# Altium schematic symbol library Crystal.SchLib: 2 symbols
Pins are listed as number, name and electrical type; pins without a type are passive.

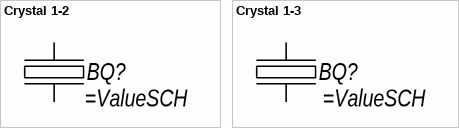
[diagram p0: symbols Crystal 1-2 to Crystal 1-3]

## Crystal 1-2
designator BQ?
pins: 1, 2

## Crystal 1-3
designator BQ?
pins: 1, 3